# EAGLE library part SM06-GHS-TB (library Picoradio1V1)
6 Pin, Side entry, Shrouded Connector
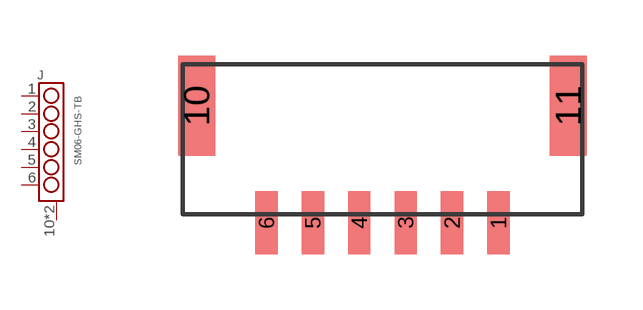
[diagram p5: symbol with the pads of SM06B-GHS-TB; footprint SM06B-GHS-TB]

Designator prefix J

## SM06-GHS-TB (DIGIKEY: 455-1568-1-ND; MPN: SM06B-GHS-TB; MRF: JST America)  [SM06B-GHS-TB]
1  P$1
2  P$2
3  P$3
4  P$4
5  P$5
6  P$6
10  P$10
11  P$10

## Footprint SM06B-GHS-TB (pad centres in mm)
smd 0.6 x 1.7: 1 3.125,-2.25; 2 1.875,-2.25; 3 0.625,-2.25; 4 -0.625,-2.25; 5 -1.875,-2.25; 6 -3.125,-2.25
smd 1 x 2.7: 10 -5.005,0.9; 11 5.005,0.9